# EAGLE library part 22-27-2061 (library 22-27-2061)
6way straight PCB header w/friction lock Molex KK Series, Series Number 6410, 2.54mm Pitch 6 Way 1 Row Straight PCB Header, Solder Termination, 4A Source: Datasheet <https://componentsearchengine.com/Datasheets/1/22-27-2061.pdf>
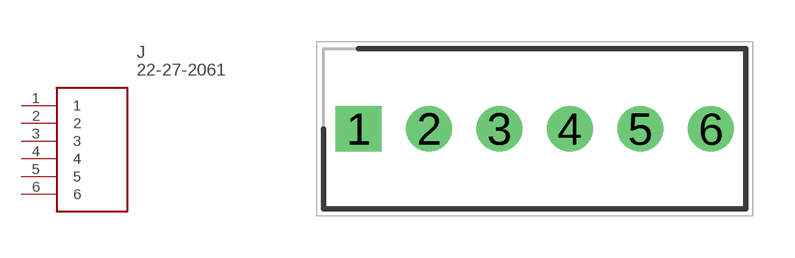
[diagram p0: symbol with the pads of HDRV6W64P0X254_1X6_1524X580X11; footprint HDRV6W64P0X254_1X6_1524X580X11]

Designator prefix J

## 22-27-2061 (DESCRIPTION: 6way straight PCB header w/friction lock Molex KK Series, Series Number 6410, 2.54mm Pitch 6 Way 1 Row Straight PCB Header, Solder Termination, 4A; HEIGHT: 11.7mm; MANUFACTURER_NAME: Molex; MANUFACTURER_PART_NUMBER: 22-27-2061; MOUSER_PART_NUMBER: 538-22-27-2061; MOUSER_PRICE-STOCK: https://www.mouser.com/Search/Refine.aspx?Keyword=538-22-27-2061)  [HDRV6W64P0X254_1X6_1524X580X11]
1  1
2  2
3  3
4  4
5  5
6  6

## Footprint HDRV6W64P0X254_1X6_1524X580X11 (pad centres in mm)
22-27-2061
drill 1.1 pad 1.65 square: 1 0,0
drill 1.1 pad 1.65: 2 2.54,0; 3 5.08,0; 4 7.62,0; 5 10.16,0; 6 12.7,0